# Altium integrated library CAP-CSGP_rev15b.intlib: 820 symbols (part 8 of 9)
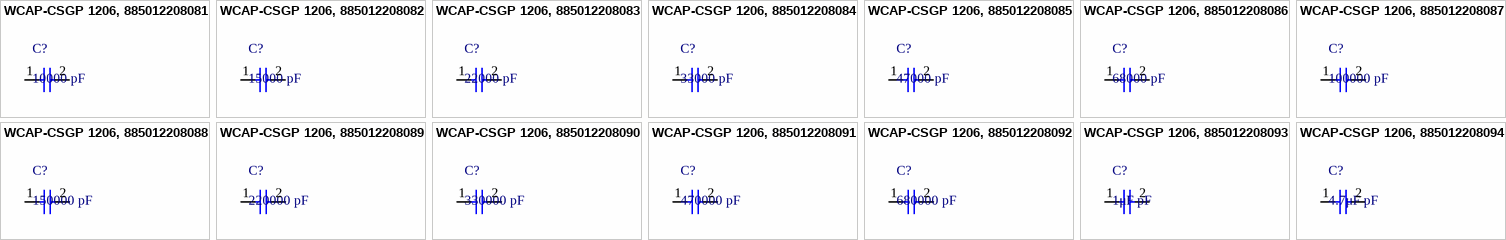
[diagram p35: symbols WCAP-CSGP 1206, 885012208081 to WCAP-CSGP 1206, 885012208094]

## WCAP-CSGP 1206, 885012208085
designator C?, comment 47000 pF
WCAP-CSGP MLCC, X7R, 1206, 47000 pF,50Vdc; Manufacturer: Wurth Elektronik; partNo: 885012208085; E-mail: libraries@we-online.com; ComponentLink1Description: Manufacturer; ComponentLink1URL: http://www.we-online.com; ComponentLink2Description: Datasheet; ComponentLink2URL: http://katalog.we-online.de/pbs/datasheet/885012208085.pdf; Created by: Karrer Zheng; Created Date: 3/9/2015; Capacitance: 47000 pF
footprint WCAP-CSGP 1206, H=0.8mm
pins: 1, 2

## WCAP-CSGP 1206, 885012208086
designator C?, comment 68000 pF
WCAP-CSGP MLCC, X7R, 1206, 68000 pF,50Vdc; Manufacturer: Wurth Elektronik; partNo: 885012208086; E-mail: libraries@we-online.com; ComponentLink1Description: Manufacturer; ComponentLink1URL: http://www.we-online.com; ComponentLink2Description: Datasheet; ComponentLink2URL: http://katalog.we-online.de/pbs/datasheet/885012208086.pdf; Created by: Karrer Zheng; Created Date: 3/9/2015; Capacitance: 68000 pF
footprint WCAP-CSGP 1206, H=0.8mm
pins: 1, 2

## WCAP-CSGP 1206, 885012208087
designator C?, comment 100000 pF
WCAP-CSGP MLCC, X7R, 1206, 100000 pF,50Vdc; Manufacturer: Wurth Elektronik; partNo: 885012208087; E-mail: libraries@we-online.com; ComponentLink1Description: Manufacturer; ComponentLink1URL: http://www.we-online.com; ComponentLink2Description: Datasheet; ComponentLink2URL: http://katalog.we-online.de/pbs/datasheet/885012208087.pdf; Created by: Karrer Zheng; Created Date: 3/9/2015; Capacitance: 100000 pF
footprint WCAP-CSGP 1206, H=0.8mm
pins: 1, 2

## WCAP-CSGP 1206, 885012208088
designator C?, comment 150000 pF
WCAP-CSGP MLCC, X7R, 1206, 150000 pF,50Vdc; Manufacturer: Wurth Elektronik; partNo: 885012208088; E-mail: libraries@we-online.com; ComponentLink1Description: Manufacturer; ComponentLink1URL: http://www.we-online.com; ComponentLink2Description: Datasheet; ComponentLink2URL: http://katalog.we-online.de/pbs/datasheet/885012208088.pdf; Created by: Karrer Zheng; Created Date: 3/9/2015; Capacitance: 150000 pF
footprint WCAP-CSGP 1206, H=0.95mm
pins: 1, 2

## WCAP-CSGP 1206, 885012208089
designator C?, comment 220000 pF
WCAP-CSGP MLCC, X7R, 1206, 220000 pF,50Vdc; Manufacturer: Wurth Elektronik; partNo: 885012208089; E-mail: libraries@we-online.com; ComponentLink1Description: Manufacturer; ComponentLink1URL: http://www.we-online.com; ComponentLink2Description: Datasheet; ComponentLink2URL: http://katalog.we-online.de/pbs/datasheet/885012208089.pdf; Created by: Karrer Zheng; Created Date: 3/9/2015; Capacitance: 220000 pF
footprint WCAP-CSGP 1206, H=0.95mm
pins: 1, 2

## WCAP-CSGP 1206, 885012208090
designator C?, comment 330000 pF
WCAP-CSGP MLCC, X7R, 1206, 330000 pF,50Vdc; Manufacturer: Wurth Elektronik; partNo: 885012208090; E-mail: libraries@we-online.com; ComponentLink1Description: Manufacturer; ComponentLink1URL: http://www.we-online.com; ComponentLink2Description: Datasheet; ComponentLink2URL: http://katalog.we-online.de/pbs/datasheet/885012208090.pdf; Created by: Karrer Zheng; Created Date: 3/9/2015; Capacitance: 330000 pF
footprint WCAP-CSGP 1206, H=1.25mm
pins: 1, 2

## WCAP-CSGP 1206, 885012208091
designator C?, comment 470000 pF
WCAP-CSGP MLCC, X7R, 1206, 470000 pF,50Vdc; Manufacturer: Wurth Elektronik; partNo: 885012208091; E-mail: libraries@we-online.com; ComponentLink1Description: Manufacturer; ComponentLink1URL: http://www.we-online.com; ComponentLink2Description: Datasheet; ComponentLink2URL: http://katalog.we-online.de/pbs/datasheet/885012208091.pdf; Created by: Karrer Zheng; Created Date: 3/9/2015; Capacitance: 470000 pF
footprint WCAP-CSGP 1206, H=1.6mm
pins: 1, 2

## WCAP-CSGP 1206, 885012208092
designator C?, comment 680000 pF
WCAP-CSGP MLCC, X7R, 1206, 680000 pF,50Vdc; Manufacturer: Wurth Elektronik; partNo: 885012208092; E-mail: libraries@we-online.com; ComponentLink1Description: Manufacturer; ComponentLink1URL: http://www.we-online.com; ComponentLink2Description: Datasheet; ComponentLink2URL: http://katalog.we-online.de/pbs/datasheet/885012208092.pdf; Created by: Karrer Zheng; Created Date: 3/9/2015; Capacitance: 680000 pF
footprint WCAP-CSGP 1206, H=1.6mm
pins: 1, 2

## WCAP-CSGP 1206, 885012208093
designator C?, comment 1μF pF
WCAP-CSGP MLCC, X7R, 1206, 1μF pF,50Vdc; Manufacturer: Wurth Elektronik; partNo: 885012208093; E-mail: libraries@we-online.com; ComponentLink1Description: Manufacturer; ComponentLink1URL: http://www.we-online.com; ComponentLink2Description: Datasheet; ComponentLink2URL: http://katalog.we-online.de/pbs/datasheet/885012208093.pdf; Created by: Karrer Zheng; Created Date: 3/9/2015; Capacitance: 1μF pF
footprint WCAP-CSGP 1206, H=1.6mm
pins: 1, 2

## WCAP-CSGP 1206, 885012208094
designator C?, comment 4.7μF pF
WCAP-CSGP MLCC, X7R, 1206, 4.7μF pF,50Vdc; Manufacturer: Wurth Elektronik; partNo: 885012208094; E-mail: libraries@we-online.com; ComponentLink1Description: Manufacturer; ComponentLink1URL: http://www.we-online.com; ComponentLink2Description: Datasheet; ComponentLink2URL: http://katalog.we-online.de/pbs/datasheet/885012208094.pdf; Created by: Karrer Zheng; Created Date: 3/9/2015; Capacitance: 4.7μF pF
footprint WCAP-CSGP 1206, H=1.6mm
pins: 1, 2


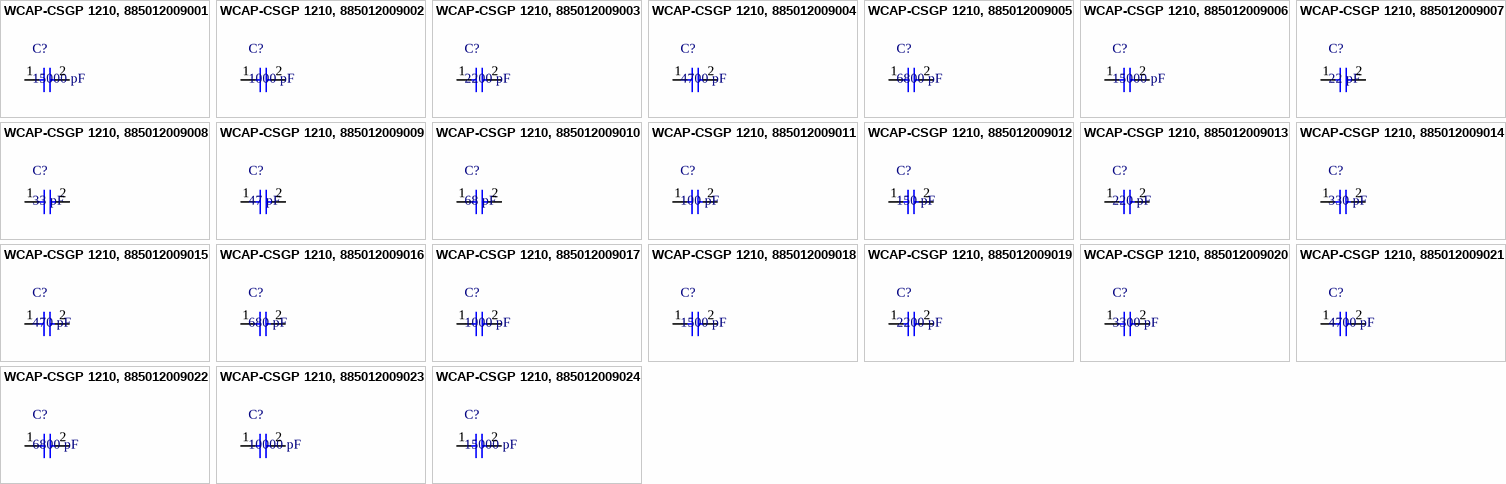
[diagram p23: symbols WCAP-CSGP 1210, 885012009001 to WCAP-CSGP 1210, 885012009024]

## WCAP-CSGP 1210, 885012009001
designator C?, comment 15000 pF
WCAP-CSGP MLCC, NP0, 1210, 15000 pF,16Vdc; Manufacturer: Wurth Elektronik; partNo: 885012009001; E-mail: libraries@we-online.com; ComponentLink1Description: Manufacturer; ComponentLink1URL: http://www.we-online.com; ComponentLink2Description: Datasheet; ComponentLink2URL: http://katalog.we-online.de/pbs/datasheet/885012009001.pdf; Created by: Karrer Zheng; Created Date: 3/9/2015; Capacitance: 15000 pF
footprint WCAP-CSGP 1210, H=1.25mm (MLCC 1210, H=0.95mm)
pins: 1, 2

## WCAP-CSGP 1210, 885012009002
designator C?, comment 1000 pF
WCAP-CSGP MLCC, NP0, 1210, 1000 pF,25Vdc; Manufacturer: Wurth Elektronik; partNo: 885012009002; E-mail: libraries@we-online.com; ComponentLink1Description: Manufacturer; ComponentLink1URL: http://www.we-online.com; ComponentLink2Description: Datasheet; ComponentLink2URL: http://katalog.we-online.de/pbs/datasheet/885012009002.pdf; Created by: Karrer Zheng; Created Date: 3/9/2015; Capacitance: 1000 pF
footprint WCAP-CSGP 1210, H=0.95mm
pins: 1, 2

## WCAP-CSGP 1210, 885012009003
designator C?, comment 2200 pF
WCAP-CSGP MLCC, NP0, 1210, 2200 pF,25Vdc; Manufacturer: Wurth Elektronik; partNo: 885012009003; E-mail: libraries@we-online.com; ComponentLink1Description: Manufacturer; ComponentLink1URL: http://www.we-online.com; ComponentLink2Description: Datasheet; ComponentLink2URL: http://katalog.we-online.de/pbs/datasheet/885012009003.pdf; Created by: Karrer Zheng; Created Date: 3/9/2015; Capacitance: 2200 pF
footprint WCAP-CSGP 1210, H=0.95mm
pins: 1, 2

## WCAP-CSGP 1210, 885012009004
designator C?, comment 4700 pF
WCAP-CSGP MLCC, NP0, 1210, 4700 pF,25Vdc; Manufacturer: Wurth Elektronik; partNo: 885012009004; E-mail: libraries@we-online.com; ComponentLink1Description: Manufacturer; ComponentLink1URL: http://www.we-online.com; ComponentLink2Description: Datasheet; ComponentLink2URL: http://katalog.we-online.de/pbs/datasheet/885012009004.pdf; Created by: Karrer Zheng; Created Date: 3/9/2015; Capacitance: 4700 pF
footprint WCAP-CSGP 1210, H=0.95mm
pins: 1, 2

## WCAP-CSGP 1210, 885012009005
designator C?, comment 6800 pF
WCAP-CSGP MLCC, NP0, 1210, 6800 pF,25Vdc; Manufacturer: Wurth Elektronik; partNo: 885012009005; E-mail: libraries@we-online.com; ComponentLink1Description: Manufacturer; ComponentLink1URL: http://www.we-online.com; ComponentLink2Description: Datasheet; ComponentLink2URL: http://katalog.we-online.de/pbs/datasheet/885012009005.pdf; Created by: Karrer Zheng; Created Date: 3/9/2015; Capacitance: 6800 pF
footprint WCAP-CSGP 1210, H=0.95mm
pins: 1, 2

## WCAP-CSGP 1210, 885012009006
designator C?, comment 15000 pF
WCAP-CSGP MLCC, NP0, 1210, 15000 pF,25Vdc; Manufacturer: Wurth Elektronik; partNo: 885012009006; E-mail: libraries@we-online.com; ComponentLink1Description: Manufacturer; ComponentLink1URL: http://www.we-online.com; ComponentLink2Description: Datasheet; ComponentLink2URL: http://katalog.we-online.de/pbs/datasheet/885012009006.pdf; Created by: Karrer Zheng; Created Date: 3/9/2015; Capacitance: 15000 pF
footprint WCAP-CSGP 1210, H=1.25mm
pins: 1, 2

## WCAP-CSGP 1210, 885012009007
designator C?, comment 22 pF
WCAP-CSGP MLCC, NP0, 1210, 22 pF,50Vdc; Manufacturer: Wurth Elektronik; partNo: 885012009007; E-mail: libraries@we-online.com; ComponentLink1Description: Manufacturer; ComponentLink1URL: http://www.we-online.com; ComponentLink2Description: Datasheet; ComponentLink2URL: http://katalog.we-online.de/pbs/datasheet/885012009007.pdf; Created by: Karrer Zheng; Created Date: 3/9/2015; Capacitance: 22 pF
footprint WCAP-CSGP 1210, H=0.95mm
pins: 1, 2

## WCAP-CSGP 1210, 885012009008
designator C?, comment 33 pF
WCAP-CSGP MLCC, NP0, 1210, 33 pF,50Vdc; Manufacturer: Wurth Elektronik; partNo: 885012009008; E-mail: libraries@we-online.com; ComponentLink1Description: Manufacturer; ComponentLink1URL: http://www.we-online.com; ComponentLink2Description: Datasheet; ComponentLink2URL: http://katalog.we-online.de/pbs/datasheet/885012009008.pdf; Created by: Karrer Zheng; Created Date: 3/9/2015; Capacitance: 33 pF
footprint WCAP-CSGP 1210, H=0.95mm
pins: 1, 2

## WCAP-CSGP 1210, 885012009009
designator C?, comment 47 pF
WCAP-CSGP MLCC, NP0, 1210, 47 pF,50Vdc; Manufacturer: Wurth Elektronik; partNo: 885012009009; E-mail: libraries@we-online.com; ComponentLink1Description: Manufacturer; ComponentLink1URL: http://www.we-online.com; ComponentLink2Description: Datasheet; ComponentLink2URL: http://katalog.we-online.de/pbs/datasheet/885012009009.pdf; Created by: Karrer Zheng; Created Date: 3/9/2015; Capacitance: 47 pF
footprint WCAP-CSGP 1210, H=0.95mm
pins: 1, 2

## WCAP-CSGP 1210, 885012009010
designator C?, comment 68 pF
WCAP-CSGP MLCC, NP0, 1210, 68 pF,50Vdc; Manufacturer: Wurth Elektronik; partNo: 885012009010; E-mail: libraries@we-online.com; ComponentLink1Description: Manufacturer; ComponentLink1URL: http://www.we-online.com; ComponentLink2Description: Datasheet; ComponentLink2URL: http://katalog.we-online.de/pbs/datasheet/885012009010.pdf; Created by: Karrer Zheng; Created Date: 3/9/2015; Capacitance: 68 pF
footprint WCAP-CSGP 1210, H=0.95mm
pins: 1, 2

## WCAP-CSGP 1210, 885012009011
designator C?, comment 100 pF
WCAP-CSGP MLCC, NP0, 1210, 100 pF,50Vdc; Manufacturer: Wurth Elektronik; partNo: 885012009011; E-mail: libraries@we-online.com; ComponentLink1Description: Manufacturer; ComponentLink1URL: http://www.we-online.com; ComponentLink2Description: Datasheet; ComponentLink2URL: http://katalog.we-online.de/pbs/datasheet/885012009011.pdf; Created by: Karrer Zheng; Created Date: 3/9/2015; Capacitance: 100 pF
footprint WCAP-CSGP 1210, H=0.95mm
pins: 1, 2

## WCAP-CSGP 1210, 885012009012
designator C?, comment 150 pF
WCAP-CSGP MLCC, NP0, 1210, 150 pF,50Vdc; Manufacturer: Wurth Elektronik; partNo: 885012009012; E-mail: libraries@we-online.com; ComponentLink1Description: Manufacturer; ComponentLink1URL: http://www.we-online.com; ComponentLink2Description: Datasheet; ComponentLink2URL: http://katalog.we-online.de/pbs/datasheet/885012009012.pdf; Created by: Karrer Zheng; Created Date: 3/9/2015; Capacitance: 150 pF
footprint WCAP-CSGP 1210, H=0.95mm
pins: 1, 2

## WCAP-CSGP 1210, 885012009013
designator C?, comment 220 pF
WCAP-CSGP MLCC, NP0, 1210, 220 pF,50Vdc; Manufacturer: Wurth Elektronik; partNo: 885012009013; E-mail: libraries@we-online.com; ComponentLink1Description: Manufacturer; ComponentLink1URL: http://www.we-online.com; ComponentLink2Description: Datasheet; ComponentLink2URL: http://katalog.we-online.de/pbs/datasheet/885012009013.pdf; Created by: Karrer Zheng; Created Date: 3/9/2015; Capacitance: 220 pF
footprint WCAP-CSGP 1210, H=0.95mm
pins: 1, 2

## WCAP-CSGP 1210, 885012009014
designator C?, comment 330 pF
WCAP-CSGP MLCC, NP0, 1210, 330 pF,50Vdc; Manufacturer: Wurth Elektronik; partNo: 885012009014; E-mail: libraries@we-online.com; ComponentLink1Description: Manufacturer; ComponentLink1URL: http://www.we-online.com; ComponentLink2Description: Datasheet; ComponentLink2URL: http://katalog.we-online.de/pbs/datasheet/885012009014.pdf; Created by: Karrer Zheng; Created Date: 3/9/2015; Capacitance: 330 pF
footprint WCAP-CSGP 1210, H=0.95mm
pins: 1, 2

## WCAP-CSGP 1210, 885012009015
designator C?, comment 470 pF
WCAP-CSGP MLCC, NP0, 1210, 470 pF,50Vdc; Manufacturer: Wurth Elektronik; partNo: 885012009015; E-mail: libraries@we-online.com; ComponentLink1Description: Manufacturer; ComponentLink1URL: http://www.we-online.com; ComponentLink2Description: Datasheet; ComponentLink2URL: http://katalog.we-online.de/pbs/datasheet/885012009015.pdf; Created by: Karrer Zheng; Created Date: 3/9/2015; Capacitance: 470 pF
footprint WCAP-CSGP 1210, H=0.95mm
pins: 1, 2

## WCAP-CSGP 1210, 885012009016
designator C?, comment 680 pF
WCAP-CSGP MLCC, NP0, 1210, 680 pF,50Vdc; Manufacturer: Wurth Elektronik; partNo: 885012009016; E-mail: libraries@we-online.com; ComponentLink1Description: Manufacturer; ComponentLink1URL: http://www.we-online.com; ComponentLink2Description: Datasheet; ComponentLink2URL: http://katalog.we-online.de/pbs/datasheet/885012009016.pdf; Created by: Karrer Zheng; Created Date: 3/9/2015; Capacitance: 680 pF
footprint WCAP-CSGP 1210, H=0.95mm
pins: 1, 2

## WCAP-CSGP 1210, 885012009017
designator C?, comment 1000 pF
WCAP-CSGP MLCC, NP0, 1210, 1000 pF,50Vdc; Manufacturer: Wurth Elektronik; partNo: 885012009017; E-mail: libraries@we-online.com; ComponentLink1Description: Manufacturer; ComponentLink1URL: http://www.we-online.com; ComponentLink2Description: Datasheet; ComponentLink2URL: http://katalog.we-online.de/pbs/datasheet/885012009017.pdf; Created by: Karrer Zheng; Created Date: 3/9/2015; Capacitance: 1000 pF
footprint WCAP-CSGP 1210, H=0.95mm
pins: 1, 2

## WCAP-CSGP 1210, 885012009018
designator C?, comment 1500 pF
WCAP-CSGP MLCC, NP0, 1210, 1500 pF,50Vdc; Manufacturer: Wurth Elektronik; partNo: 885012009018; E-mail: libraries@we-online.com; ComponentLink1Description: Manufacturer; ComponentLink1URL: http://www.we-online.com; ComponentLink2Description: Datasheet; ComponentLink2URL: http://katalog.we-online.de/pbs/datasheet/885012009018.pdf; Created by: Karrer Zheng; Created Date: 3/9/2015; Capacitance: 1500 pF
footprint WCAP-CSGP 1210, H=0.95mm
pins: 1, 2

## WCAP-CSGP 1210, 885012009019
designator C?, comment 2200 pF
WCAP-CSGP MLCC, NP0, 1210, 2200 pF,50Vdc; Manufacturer: Wurth Elektronik; partNo: 885012009019; E-mail: libraries@we-online.com; ComponentLink1Description: Manufacturer; ComponentLink1URL: http://www.we-online.com; ComponentLink2Description: Datasheet; ComponentLink2URL: http://katalog.we-online.de/pbs/datasheet/885012009019.pdf; Created by: Karrer Zheng; Created Date: 3/9/2015; Capacitance: 2200 pF
footprint WCAP-CSGP 1210, H=0.95mm
pins: 1, 2

## WCAP-CSGP 1210, 885012009020
designator C?, comment 3300 pF
WCAP-CSGP MLCC, NP0, 1210, 3300 pF,50Vdc; Manufacturer: Wurth Elektronik; partNo: 885012009020; E-mail: libraries@we-online.com; ComponentLink1Description: Manufacturer; ComponentLink1URL: http://www.we-online.com; ComponentLink2Description: Datasheet; ComponentLink2URL: http://katalog.we-online.de/pbs/datasheet/885012009020.pdf; Created by: Karrer Zheng; Created Date: 3/9/2015; Capacitance: 3300 pF
footprint WCAP-CSGP 1210, H=0.95mm
pins: 1, 2

## WCAP-CSGP 1210, 885012009021
designator C?, comment 4700 pF
WCAP-CSGP MLCC, NP0, 1210, 4700 pF,50Vdc; Manufacturer: Wurth Elektronik; partNo: 885012009021; E-mail: libraries@we-online.com; ComponentLink1Description: Manufacturer; ComponentLink1URL: http://www.we-online.com; ComponentLink2Description: Datasheet; ComponentLink2URL: http://katalog.we-online.de/pbs/datasheet/885012009021.pdf; Created by: Karrer Zheng; Created Date: 3/9/2015; Capacitance: 4700 pF
footprint WCAP-CSGP 1210, H=0.95mm
pins: 1, 2

## WCAP-CSGP 1210, 885012009022
designator C?, comment 6800 pF
WCAP-CSGP MLCC, NP0, 1210, 6800 pF,50Vdc; Manufacturer: Wurth Elektronik; partNo: 885012009022; E-mail: libraries@we-online.com; ComponentLink1Description: Manufacturer; ComponentLink1URL: http://www.we-online.com; ComponentLink2Description: Datasheet; ComponentLink2URL: http://katalog.we-online.de/pbs/datasheet/885012009022.pdf; Created by: Karrer Zheng; Created Date: 3/9/2015; Capacitance: 6800 pF
footprint WCAP-CSGP 1210, H=0.95mm
pins: 1, 2

## WCAP-CSGP 1210, 885012009023
designator C?, comment 10000 pF
WCAP-CSGP MLCC, NP0, 1210, 10000 pF,50Vdc; Manufacturer: Wurth Elektronik; partNo: 885012009023; E-mail: libraries@we-online.com; ComponentLink1Description: Manufacturer; ComponentLink1URL: http://www.we-online.com; ComponentLink2Description: Datasheet; ComponentLink2URL: http://katalog.we-online.de/pbs/datasheet/885012009023.pdf; Created by: Karrer Zheng; Created Date: 3/9/2015; Capacitance: 10000 pF
footprint WCAP-CSGP 1210, H=0.95mm
pins: 1, 2

## WCAP-CSGP 1210, 885012009024
designator C?, comment 15000 pF
WCAP-CSGP MLCC, NP0, 1210, 15000 pF,50Vdc; Manufacturer: Wurth Elektronik; partNo: 885012009024; E-mail: libraries@we-online.com; ComponentLink1Description: Manufacturer; ComponentLink1URL: http://www.we-online.com; ComponentLink2Description: Datasheet; ComponentLink2URL: http://katalog.we-online.de/pbs/datasheet/885012009024.pdf; Created by: Karrer Zheng; Created Date: 3/9/2015; Capacitance: 15000 pF
footprint WCAP-CSGP 1210, H=1.25mm
pins: 1, 2


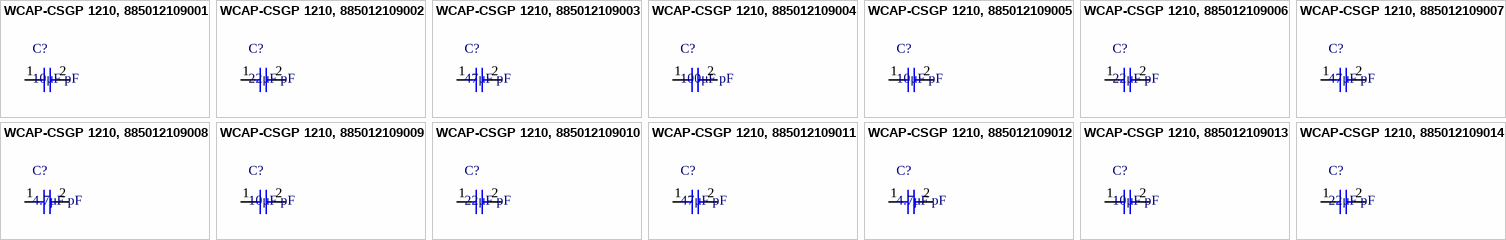
[diagram p24: symbols WCAP-CSGP 1210, 885012109001 to WCAP-CSGP 1210, 885012109014]

## WCAP-CSGP 1210, 885012109001
designator C?, comment 10μF pF
WCAP-CSGP MLCC, X5R, 1210, 10μF pF,6.3Vdc; Manufacturer: Wurth Elektronik; partNo: 885012109001; E-mail: libraries@we-online.com; ComponentLink1Description: Manufacturer; ComponentLink1URL: http://www.we-online.com; ComponentLink2Description: Datasheet; ComponentLink2URL: http://katalog.we-online.de/pbs/datasheet/885012109001.pdf; Created by: Karrer Zheng; Created Date: 3/9/2015; Capacitance: 10μF pF
footprint WCAP-CSGP 1210, H=2mm
pins: 1, 2

## WCAP-CSGP 1210, 885012109002
designator C?, comment 22μF pF
WCAP-CSGP MLCC, X5R, 1210, 22μF pF,6.3Vdc; Manufacturer: Wurth Elektronik; partNo: 885012109002; E-mail: libraries@we-online.com; ComponentLink1Description: Manufacturer; ComponentLink1URL: http://www.we-online.com; ComponentLink2Description: Datasheet; ComponentLink2URL: http://katalog.we-online.de/pbs/datasheet/885012109002.pdf; Created by: Karrer Zheng; Created Date: 3/9/2015; Capacitance: 22μF pF
footprint WCAP-CSGP 1210, H=2.5mm
pins: 1, 2

## WCAP-CSGP 1210, 885012109003
designator C?, comment 47μF pF
WCAP-CSGP MLCC, X5R, 1210, 47μF pF,6.3Vdc; Manufacturer: Wurth Elektronik; partNo: 885012109003; E-mail: libraries@we-online.com; ComponentLink1Description: Manufacturer; ComponentLink1URL: http://www.we-online.com; ComponentLink2Description: Datasheet; ComponentLink2URL: http://katalog.we-online.de/pbs/datasheet/885012109003.pdf; Created by: Karrer Zheng; Created Date: 3/9/2015; Capacitance: 47μF pF
footprint WCAP-CSGP 1210, H=2.5mm
pins: 1, 2

## WCAP-CSGP 1210, 885012109004
designator C?, comment 100μF pF
WCAP-CSGP MLCC, X5R, 1210, 100μF pF,6.3Vdc; Manufacturer: Wurth Elektronik; partNo: 885012109004; E-mail: libraries@we-online.com; ComponentLink1Description: Manufacturer; ComponentLink1URL: http://www.we-online.com; ComponentLink2Description: Datasheet; ComponentLink2URL: http://katalog.we-online.de/pbs/datasheet/885012109004.pdf; Created by: Karrer Zheng; Created Date: 3/9/2015; Capacitance: 100μF pF
footprint WCAP-CSGP 1210, H=2.5mm
pins: 1, 2

## WCAP-CSGP 1210, 885012109005
designator C?, comment 10μF pF
WCAP-CSGP MLCC, X5R, 1210, 10μF pF,10Vdc; Manufacturer: Wurth Elektronik; partNo: 885012109005; E-mail: libraries@we-online.com; ComponentLink1Description: Manufacturer; ComponentLink1URL: http://www.we-online.com; ComponentLink2Description: Datasheet; ComponentLink2URL: http://katalog.we-online.de/pbs/datasheet/885012109005.pdf; Created by: Karrer Zheng; Created Date: 3/9/2015; Capacitance: 10μF pF
footprint WCAP-CSGP 1210, H=2mm
pins: 1, 2

## WCAP-CSGP 1210, 885012109006
designator C?, comment 22μF pF
WCAP-CSGP MLCC, X5R, 1210, 22μF pF,10Vdc; Manufacturer: Wurth Elektronik; partNo: 885012109006; E-mail: libraries@we-online.com; ComponentLink1Description: Manufacturer; ComponentLink1URL: http://www.we-online.com; ComponentLink2Description: Datasheet; ComponentLink2URL: http://katalog.we-online.de/pbs/datasheet/885012109006.pdf; Created by: Karrer Zheng; Created Date: 3/9/2015; Capacitance: 22μF pF
footprint WCAP-CSGP 1210, H=2.5mm
pins: 1, 2

## WCAP-CSGP 1210, 885012109007
designator C?, comment 47μF pF
WCAP-CSGP MLCC, X5R, 1210, 47μF pF,10Vdc; Manufacturer: Wurth Elektronik; partNo: 885012109007; E-mail: libraries@we-online.com; ComponentLink1Description: Manufacturer; ComponentLink1URL: http://www.we-online.com; ComponentLink2Description: Datasheet; ComponentLink2URL: http://katalog.we-online.de/pbs/datasheet/885012109007.pdf; Created by: Karrer Zheng; Created Date: 3/9/2015; Capacitance: 47μF pF
footprint WCAP-CSGP 1210, H=2.5mm
pins: 1, 2

## WCAP-CSGP 1210, 885012109008
designator C?, comment 4.7μF pF
WCAP-CSGP MLCC, X5R, 1210, 4.7μF pF,16Vdc; Manufacturer: Wurth Elektronik; partNo: 885012109008; E-mail: libraries@we-online.com; ComponentLink1Description: Manufacturer; ComponentLink1URL: http://www.we-online.com; ComponentLink2Description: Datasheet; ComponentLink2URL: http://katalog.we-online.de/pbs/datasheet/885012109008.pdf; Created by: Karrer Zheng; Created Date: 3/9/2015; Capacitance: 4.7μF pF
footprint WCAP-CSGP 1210, H=2mm
pins: 1, 2

## WCAP-CSGP 1210, 885012109009
designator C?, comment 10μF pF
WCAP-CSGP MLCC, X5R, 1210, 10μF pF,16Vdc; Manufacturer: Wurth Elektronik; partNo: 885012109009; E-mail: libraries@we-online.com; ComponentLink1Description: Manufacturer; ComponentLink1URL: http://www.we-online.com; ComponentLink2Description: Datasheet; ComponentLink2URL: http://katalog.we-online.de/pbs/datasheet/885012109009.pdf; Created by: Karrer Zheng; Created Date: 3/9/2015; Capacitance: 10μF pF
footprint WCAP-CSGP 1210, H=2mm
pins: 1, 2

## WCAP-CSGP 1210, 885012109010
designator C?, comment 22μF pF
WCAP-CSGP MLCC, X5R, 1210, 22μF pF,16Vdc; Manufacturer: Wurth Elektronik; partNo: 885012109010; E-mail: libraries@we-online.com; ComponentLink1Description: Manufacturer; ComponentLink1URL: http://www.we-online.com; ComponentLink2Description: Datasheet; ComponentLink2URL: http://katalog.we-online.de/pbs/datasheet/885012109010.pdf; Created by: Karrer Zheng; Created Date: 3/9/2015; Capacitance: 22μF pF
footprint WCAP-CSGP 1210, H=2.5mm
pins: 1, 2

## WCAP-CSGP 1210, 885012109011
designator C?, comment 47μF pF
WCAP-CSGP MLCC, X5R, 1210, 47μF pF,16Vdc; Manufacturer: Wurth Elektronik; partNo: 885012109011; E-mail: libraries@we-online.com; ComponentLink1Description: Manufacturer; ComponentLink1URL: http://www.we-online.com; ComponentLink2Description: Datasheet; ComponentLink2URL: http://katalog.we-online.de/pbs/datasheet/885012109011.pdf; Created by: Karrer Zheng; Created Date: 3/9/2015; Capacitance: 47μF pF
footprint WCAP-CSGP 1210, H=2.5mm
pins: 1, 2

## WCAP-CSGP 1210, 885012109012
designator C?, comment 4.7μF pF
WCAP-CSGP MLCC, X5R, 1210, 4.7μF pF,25Vdc; Manufacturer: Wurth Elektronik; partNo: 885012109012; E-mail: libraries@we-online.com; ComponentLink1Description: Manufacturer; ComponentLink1URL: http://www.we-online.com; ComponentLink2Description: Datasheet; ComponentLink2URL: http://katalog.we-online.de/pbs/datasheet/885012109012.pdf; Created by: Karrer Zheng; Created Date: 3/9/2015; Capacitance: 4.7μF pF
footprint WCAP-CSGP 1210, H=2mm
pins: 1, 2

## WCAP-CSGP 1210, 885012109013
designator C?, comment 10μF pF
WCAP-CSGP MLCC, X5R, 1210, 10μF pF,25Vdc; Manufacturer: Wurth Elektronik; partNo: 885012109013; E-mail: libraries@we-online.com; ComponentLink1Description: Manufacturer; ComponentLink1URL: http://www.we-online.com; ComponentLink2Description: Datasheet; ComponentLink2URL: http://katalog.we-online.de/pbs/datasheet/885012109013.pdf; Created by: Karrer Zheng; Created Date: 3/9/2015; Capacitance: 10μF pF
footprint WCAP-CSGP 1210, H=2mm
pins: 1, 2

## WCAP-CSGP 1210, 885012109014
designator C?, comment 22μF pF
WCAP-CSGP MLCC, X5R, 1210, 22μF pF,25Vdc; Manufacturer: Wurth Elektronik; partNo: 885012109014; E-mail: libraries@we-online.com; ComponentLink1Description: Manufacturer; ComponentLink1URL: http://www.we-online.com; ComponentLink2Description: Datasheet; ComponentLink2URL: http://katalog.we-online.de/pbs/datasheet/885012109014.pdf; Created by: Karrer Zheng; Created Date: 3/9/2015; Capacitance: 22μF pF
footprint WCAP-CSGP 1210, H=2.5mm
pins: 1, 2


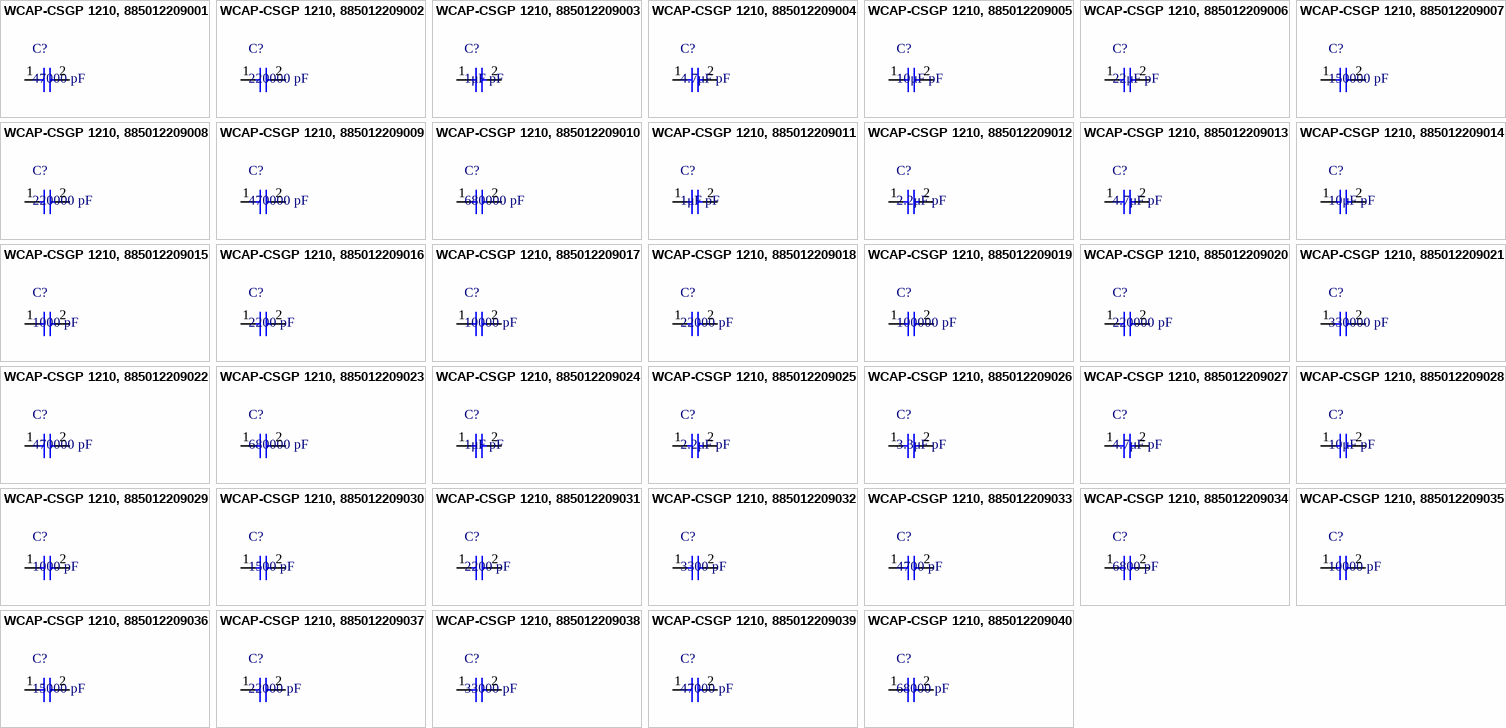
[diagram p25: symbols WCAP-CSGP 1210, 885012209001 to WCAP-CSGP 1210, 885012209040]

## WCAP-CSGP 1210, 885012209001
designator C?, comment 47000 pF
WCAP-CSGP MLCC, X7R, 1210, 47000 pF,10Vdc; Manufacturer: Wurth Elektronik; partNo: 885012209001; E-mail: libraries@we-online.com; ComponentLink1Description: Manufacturer; ComponentLink1URL: http://www.we-online.com; ComponentLink2Description: Datasheet; ComponentLink2URL: http://katalog.we-online.de/pbs/datasheet/885012209001.pdf; Created by: Karrer Zheng; Created Date: 3/9/2015; Capacitance: 47000 pF
footprint WCAP-CSGP 1210, H=0.95mm
pins: 1, 2

## WCAP-CSGP 1210, 885012209002
designator C?, comment 220000 pF
WCAP-CSGP MLCC, X7R, 1210, 220000 pF,10Vdc; Manufacturer: Wurth Elektronik; partNo: 885012209002; E-mail: libraries@we-online.com; ComponentLink1Description: Manufacturer; ComponentLink1URL: http://www.we-online.com; ComponentLink2Description: Datasheet; ComponentLink2URL: http://katalog.we-online.de/pbs/datasheet/885012209002.pdf; Created by: Karrer Zheng; Created Date: 3/9/2015; Capacitance: 220000 pF
footprint WCAP-CSGP 1210, H=0.95mm
pins: 1, 2

## WCAP-CSGP 1210, 885012209003
designator C?, comment 1μF pF
WCAP-CSGP MLCC, X7R, 1210, 1μF pF,10Vdc; Manufacturer: Wurth Elektronik; partNo: 885012209003; E-mail: libraries@we-online.com; ComponentLink1Description: Manufacturer; ComponentLink1URL: http://www.we-online.com; ComponentLink2Description: Datasheet; ComponentLink2URL: http://katalog.we-online.de/pbs/datasheet/885012209003.pdf; Created by: Karrer Zheng; Created Date: 3/9/2015; Capacitance: 1μF pF
footprint WCAP-CSGP 1210, H=1.25mm
pins: 1, 2

## WCAP-CSGP 1210, 885012209004
designator C?, comment 4.7μF pF
WCAP-CSGP MLCC, X7R, 1210, 4.7μF pF,10Vdc; Manufacturer: Wurth Elektronik; partNo: 885012209004; E-mail: libraries@we-online.com; ComponentLink1Description: Manufacturer; ComponentLink1URL: http://www.we-online.com; ComponentLink2Description: Datasheet; ComponentLink2URL: http://katalog.we-online.de/pbs/datasheet/885012209004.pdf; Created by: Karrer Zheng; Created Date: 3/9/2015; Capacitance: 4.7μF pF
footprint WCAP-CSGP 1210, H=2mm
pins: 1, 2

## WCAP-CSGP 1210, 885012209005
designator C?, comment 10μF pF
WCAP-CSGP MLCC, X7R, 1210, 10μF pF,10Vdc; Manufacturer: Wurth Elektronik; partNo: 885012209005; E-mail: libraries@we-online.com; ComponentLink1Description: Manufacturer; ComponentLink1URL: http://www.we-online.com; ComponentLink2Description: Datasheet; ComponentLink2URL: http://katalog.we-online.de/pbs/datasheet/885012209005.pdf; Created by: Karrer Zheng; Created Date: 3/9/2015; Capacitance: 10μF pF
footprint WCAP-CSGP 1210, H=2mm
pins: 1, 2

## WCAP-CSGP 1210, 885012209006
designator C?, comment 22μF pF
WCAP-CSGP MLCC, X7R, 1210, 22μF pF,10Vdc; Manufacturer: Wurth Elektronik; partNo: 885012209006; E-mail: libraries@we-online.com; ComponentLink1Description: Manufacturer; ComponentLink1URL: http://www.we-online.com; ComponentLink2Description: Datasheet; ComponentLink2URL: http://katalog.we-online.de/pbs/datasheet/885012209006.pdf; Created by: Karrer Zheng; Created Date: 3/9/2015; Capacitance: 22μF pF
footprint WCAP-CSGP 1210, H=2.5mm
pins: 1, 2

## WCAP-CSGP 1210, 885012209007
designator C?, comment 150000 pF
WCAP-CSGP MLCC, X7R, 1210, 150000 pF,16Vdc; Manufacturer: Wurth Elektronik; partNo: 885012209007; E-mail: libraries@we-online.com; ComponentLink1Description: Manufacturer; ComponentLink1URL: http://www.we-online.com; ComponentLink2Description: Datasheet; ComponentLink2URL: http://katalog.we-online.de/pbs/datasheet/885012209007.pdf; Created by: Karrer Zheng; Created Date: 3/9/2015; Capacitance: 150000 pF
footprint WCAP-CSGP 1210, H=0.95mm
pins: 1, 2

## WCAP-CSGP 1210, 885012209008
designator C?, comment 220000 pF
WCAP-CSGP MLCC, X7R, 1210, 220000 pF,16Vdc; Manufacturer: Wurth Elektronik; partNo: 885012209008; E-mail: libraries@we-online.com; ComponentLink1Description: Manufacturer; ComponentLink1URL: http://www.we-online.com; ComponentLink2Description: Datasheet; ComponentLink2URL: http://katalog.we-online.de/pbs/datasheet/885012209008.pdf; Created by: Karrer Zheng; Created Date: 3/9/2015; Capacitance: 220000 pF
footprint WCAP-CSGP 1210, H=0.95mm
pins: 1, 2

## WCAP-CSGP 1210, 885012209009
designator C?, comment 470000 pF
WCAP-CSGP MLCC, X7R, 1210, 470000 pF,16Vdc; Manufacturer: Wurth Elektronik; partNo: 885012209009; E-mail: libraries@we-online.com; ComponentLink1Description: Manufacturer; ComponentLink1URL: http://www.we-online.com; ComponentLink2Description: Datasheet; ComponentLink2URL: http://katalog.we-online.de/pbs/datasheet/885012209009.pdf; Created by: Karrer Zheng; Created Date: 3/9/2015; Capacitance: 470000 pF
footprint WCAP-CSGP 1210, H=0.95mm
pins: 1, 2

## WCAP-CSGP 1210, 885012209010
designator C?, comment 680000 pF
WCAP-CSGP MLCC, X7R, 1210, 680000 pF,16Vdc; Manufacturer: Wurth Elektronik; partNo: 885012209010; E-mail: libraries@we-online.com; ComponentLink1Description: Manufacturer; ComponentLink1URL: http://www.we-online.com; ComponentLink2Description: Datasheet; ComponentLink2URL: http://katalog.we-online.de/pbs/datasheet/885012209010.pdf; Created by: Karrer Zheng; Created Date: 3/9/2015; Capacitance: 680000 pF
footprint WCAP-CSGP 1210, H=1.25mm
pins: 1, 2

## WCAP-CSGP 1210, 885012209011
designator C?, comment 1μF pF
WCAP-CSGP MLCC, X7R, 1210, 1μF pF,16Vdc; Manufacturer: Wurth Elektronik; partNo: 885012209011; E-mail: libraries@we-online.com; ComponentLink1Description: Manufacturer; ComponentLink1URL: http://www.we-online.com; ComponentLink2Description: Datasheet; ComponentLink2URL: http://katalog.we-online.de/pbs/datasheet/885012209011.pdf; Created by: Karrer Zheng; Created Date: 3/9/2015; Capacitance: 1μF pF
footprint WCAP-CSGP 1210, H=1.25mm
pins: 1, 2

## WCAP-CSGP 1210, 885012209012
designator C?, comment 2.2μF pF
WCAP-CSGP MLCC, X7R, 1210, 2.2μF pF,16Vdc; Manufacturer: Wurth Elektronik; partNo: 885012209012; E-mail: libraries@we-online.com; ComponentLink1Description: Manufacturer; ComponentLink1URL: http://www.we-online.com; ComponentLink2Description: Datasheet; ComponentLink2URL: http://katalog.we-online.de/pbs/datasheet/885012209012.pdf; Created by: Karrer Zheng; Created Date: 3/9/2015; Capacitance: 2.2μF pF
footprint WCAP-CSGP 1210, H=2mm
pins: 1, 2

## WCAP-CSGP 1210, 885012209013
designator C?, comment 4.7μF pF
WCAP-CSGP MLCC, X7R, 1210, 4.7μF pF,16Vdc; Manufacturer: Wurth Elektronik; partNo: 885012209013; E-mail: libraries@we-online.com; ComponentLink1Description: Manufacturer; ComponentLink1URL: http://www.we-online.com; ComponentLink2Description: Datasheet; ComponentLink2URL: http://katalog.we-online.de/pbs/datasheet/885012209013.pdf; Created by: Karrer Zheng; Created Date: 3/9/2015; Capacitance: 4.7μF pF
footprint WCAP-CSGP 1210, H=2mm
pins: 1, 2

## WCAP-CSGP 1210, 885012209014
designator C?, comment 10μF pF
WCAP-CSGP MLCC, X7R, 1210, 10μF pF,16Vdc; Manufacturer: Wurth Elektronik; partNo: 885012209014; E-mail: libraries@we-online.com; ComponentLink1Description: Manufacturer; ComponentLink1URL: http://www.we-online.com; ComponentLink2Description: Datasheet; ComponentLink2URL: http://katalog.we-online.de/pbs/datasheet/885012209014.pdf; Created by: Karrer Zheng; Created Date: 3/9/2015; Capacitance: 10μF pF
footprint WCAP-CSGP 1210, H=2mm
pins: 1, 2

## WCAP-CSGP 1210, 885012209015
designator C?, comment 1000 pF
WCAP-CSGP MLCC, X7R, 1210, 1000 pF,25Vdc; Manufacturer: Wurth Elektronik; partNo: 885012209015; E-mail: libraries@we-online.com; ComponentLink1Description: Manufacturer; ComponentLink1URL: http://www.we-online.com; ComponentLink2Description: Datasheet; ComponentLink2URL: http://katalog.we-online.de/pbs/datasheet/885012209015.pdf; Created by: Karrer Zheng; Created Date: 3/9/2015; Capacitance: 1000 pF
footprint WCAP-CSGP 1210, H=0.95mm
pins: 1, 2

## WCAP-CSGP 1210, 885012209016
designator C?, comment 2200 pF
WCAP-CSGP MLCC, X7R, 1210, 2200 pF,25Vdc; Manufacturer: Wurth Elektronik; partNo: 885012209016; E-mail: libraries@we-online.com; ComponentLink1Description: Manufacturer; ComponentLink1URL: http://www.we-online.com; ComponentLink2Description: Datasheet; ComponentLink2URL: http://katalog.we-online.de/pbs/datasheet/885012209016.pdf; Created by: Karrer Zheng; Created Date: 3/9/2015; Capacitance: 2200 pF
footprint WCAP-CSGP 1210, H=0.95mm
pins: 1, 2

## WCAP-CSGP 1210, 885012209017
designator C?, comment 10000 pF
WCAP-CSGP MLCC, X7R, 1210, 10000 pF,25Vdc; Manufacturer: Wurth Elektronik; partNo: 885012209017; E-mail: libraries@we-online.com; ComponentLink1Description: Manufacturer; ComponentLink1URL: http://www.we-online.com; ComponentLink2Description: Datasheet; ComponentLink2URL: http://katalog.we-online.de/pbs/datasheet/885012209017.pdf; Created by: Karrer Zheng; Created Date: 3/9/2015; Capacitance: 10000 pF
footprint WCAP-CSGP 1210, H=0.95mm
pins: 1, 2

## WCAP-CSGP 1210, 885012209018
designator C?, comment 22000 pF
WCAP-CSGP MLCC, X7R, 1210, 22000 pF,25Vdc; Manufacturer: Wurth Elektronik; partNo: 885012209018; E-mail: libraries@we-online.com; ComponentLink1Description: Manufacturer; ComponentLink1URL: http://www.we-online.com; ComponentLink2Description: Datasheet; ComponentLink2URL: http://katalog.we-online.de/pbs/datasheet/885012209018.pdf; Created by: Karrer Zheng; Created Date: 3/9/2015; Capacitance: 22000 pF
footprint WCAP-CSGP 1210, H=0.95mm
pins: 1, 2

## WCAP-CSGP 1210, 885012209019
designator C?, comment 100000 pF
WCAP-CSGP MLCC, X7R, 1210, 100000 pF,25Vdc; Manufacturer: Wurth Elektronik; partNo: 885012209019; E-mail: libraries@we-online.com; ComponentLink1Description: Manufacturer; ComponentLink1URL: http://www.we-online.com; ComponentLink2Description: Datasheet; ComponentLink2URL: http://katalog.we-online.de/pbs/datasheet/885012209019.pdf; Created by: Karrer Zheng; Created Date: 3/9/2015; Capacitance: 100000 pF
footprint WCAP-CSGP 1210, H=0.95mm
pins: 1, 2

## WCAP-CSGP 1210, 885012209020
designator C?, comment 220000 pF
WCAP-CSGP MLCC, X7R, 1210, 220000 pF,25Vdc; Manufacturer: Wurth Elektronik; partNo: 885012209020; E-mail: libraries@we-online.com; ComponentLink1Description: Manufacturer; ComponentLink1URL: http://www.we-online.com; ComponentLink2Description: Datasheet; ComponentLink2URL: http://katalog.we-online.de/pbs/datasheet/885012209020.pdf; Created by: Karrer Zheng; Created Date: 3/9/2015; Capacitance: 220000 pF
footprint WCAP-CSGP 1210, H=0.95mm
pins: 1, 2

## WCAP-CSGP 1210, 885012209021
designator C?, comment 330000 pF
WCAP-CSGP MLCC, X7R, 1210, 330000 pF,25Vdc; Manufacturer: Wurth Elektronik; partNo: 885012209021; E-mail: libraries@we-online.com; ComponentLink1Description: Manufacturer; ComponentLink1URL: http://www.we-online.com; ComponentLink2Description: Datasheet; ComponentLink2URL: http://katalog.we-online.de/pbs/datasheet/885012209021.pdf; Created by: Karrer Zheng; Created Date: 3/9/2015; Capacitance: 330000 pF
footprint WCAP-CSGP 1210, H=0.95mm
pins: 1, 2

## WCAP-CSGP 1210, 885012209022
designator C?, comment 470000 pF
WCAP-CSGP MLCC, X7R, 1210, 470000 pF,25Vdc; Manufacturer: Wurth Elektronik; partNo: 885012209022; E-mail: libraries@we-online.com; ComponentLink1Description: Manufacturer; ComponentLink1URL: http://www.we-online.com; ComponentLink2Description: Datasheet; ComponentLink2URL: http://katalog.we-online.de/pbs/datasheet/885012209022.pdf; Created by: Karrer Zheng; Created Date: 3/9/2015; Capacitance: 470000 pF
footprint WCAP-CSGP 1210, H=0.95mm
pins: 1, 2

## WCAP-CSGP 1210, 885012209023
designator C?, comment 680000 pF
WCAP-CSGP MLCC, X7R, 1210, 680000 pF,25Vdc; Manufacturer: Wurth Elektronik; partNo: 885012209023; E-mail: libraries@we-online.com; ComponentLink1Description: Manufacturer; ComponentLink1URL: http://www.we-online.com; ComponentLink2Description: Datasheet; ComponentLink2URL: http://katalog.we-online.de/pbs/datasheet/885012209023.pdf; Created by: Karrer Zheng; Created Date: 3/9/2015; Capacitance: 680000 pF
footprint WCAP-CSGP 1210, H=1.25mm
pins: 1, 2

## WCAP-CSGP 1210, 885012209024
designator C?, comment 1μF pF
WCAP-CSGP MLCC, X7R, 1210, 1μF pF,25Vdc; Manufacturer: Wurth Elektronik; partNo: 885012209024; E-mail: libraries@we-online.com; ComponentLink1Description: Manufacturer; ComponentLink1URL: http://www.we-online.com; ComponentLink2Description: Datasheet; ComponentLink2URL: http://katalog.we-online.de/pbs/datasheet/885012209024.pdf; Created by: Karrer Zheng; Created Date: 3/9/2015; Capacitance: 1μF pF
footprint WCAP-CSGP 1210, H=1.25mm
pins: 1, 2

## WCAP-CSGP 1210, 885012209025
designator C?, comment 2.2μF pF
WCAP-CSGP MLCC, X7R, 1210, 2.2μF pF,25Vdc; Manufacturer: Wurth Elektronik; partNo: 885012209025; E-mail: libraries@we-online.com; ComponentLink1Description: Manufacturer; ComponentLink1URL: http://www.we-online.com; ComponentLink2Description: Datasheet; ComponentLink2URL: http://katalog.we-online.de/pbs/datasheet/885012209025.pdf; Created by: Karrer Zheng; Created Date: 3/9/2015; Capacitance: 2.2μF pF
footprint WCAP-CSGP 1210, H=1.6mm
pins: 1, 2

## WCAP-CSGP 1210, 885012209026
designator C?, comment 3.3μF pF
WCAP-CSGP MLCC, X7R, 1210, 3.3μF pF,25Vdc; Manufacturer: Wurth Elektronik; partNo: 885012209026; E-mail: libraries@we-online.com; ComponentLink1Description: Manufacturer; ComponentLink1URL: http://www.we-online.com; ComponentLink2Description: Datasheet; ComponentLink2URL: http://katalog.we-online.de/pbs/datasheet/885012209026.pdf; Created by: Karrer Zheng; Created Date: 3/9/2015; Capacitance: 3.3μF pF
footprint WCAP-CSGP 1210, H=1.6mm
pins: 1, 2

## WCAP-CSGP 1210, 885012209027
designator C?, comment 4.7μF pF
WCAP-CSGP MLCC, X7R, 1210, 4.7μF pF,25Vdc; Manufacturer: Wurth Elektronik; partNo: 885012209027; E-mail: libraries@we-online.com; ComponentLink1Description: Manufacturer; ComponentLink1URL: http://www.we-online.com; ComponentLink2Description: Datasheet; ComponentLink2URL: http://katalog.we-online.de/pbs/datasheet/885012209027.pdf; Created by: Karrer Zheng; Created Date: 3/9/2015; Capacitance: 4.7μF pF
footprint WCAP-CSGP 1210, H=2mm
pins: 1, 2

## WCAP-CSGP 1210, 885012209028
designator C?, comment 10μF pF
WCAP-CSGP MLCC, X7R, 1210, 10μF pF,25Vdc; Manufacturer: Wurth Elektronik; partNo: 885012209028; E-mail: libraries@we-online.com; ComponentLink1Description: Manufacturer; ComponentLink1URL: http://www.we-online.com; ComponentLink2Description: Datasheet; ComponentLink2URL: http://katalog.we-online.de/pbs/datasheet/885012209028.pdf; Created by: Karrer Zheng; Created Date: 3/9/2015; Capacitance: 10μF pF
footprint WCAP-CSGP 1210, H=2mm
pins: 1, 2

## WCAP-CSGP 1210, 885012209029
designator C?, comment 1000 pF
WCAP-CSGP MLCC, X7R, 1210, 1000 pF,50Vdc; Manufacturer: Wurth Elektronik; partNo: 885012209029; E-mail: libraries@we-online.com; ComponentLink1Description: Manufacturer; ComponentLink1URL: http://www.we-online.com; ComponentLink2Description: Datasheet; ComponentLink2URL: http://katalog.we-online.de/pbs/datasheet/885012209029.pdf; Created by: Karrer Zheng; Created Date: 3/9/2015; Capacitance: 1000 pF
footprint WCAP-CSGP 1210, H=0.95mm
pins: 1, 2

## WCAP-CSGP 1210, 885012209030
designator C?, comment 1500 pF
WCAP-CSGP MLCC, X7R, 1210, 1500 pF,50Vdc; Manufacturer: Wurth Elektronik; partNo: 885012209030; E-mail: libraries@we-online.com; ComponentLink1Description: Manufacturer; ComponentLink1URL: http://www.we-online.com; ComponentLink2Description: Datasheet; ComponentLink2URL: http://katalog.we-online.de/pbs/datasheet/885012209030.pdf; Created by: Karrer Zheng; Created Date: 3/9/2015; Capacitance: 1500 pF
footprint WCAP-CSGP 1210, H=0.95mm
pins: 1, 2

## WCAP-CSGP 1210, 885012209031
designator C?, comment 2200 pF
WCAP-CSGP MLCC, X7R, 1210, 2200 pF,50Vdc; Manufacturer: Wurth Elektronik; partNo: 885012209031; E-mail: libraries@we-online.com; ComponentLink1Description: Manufacturer; ComponentLink1URL: http://www.we-online.com; ComponentLink2Description: Datasheet; ComponentLink2URL: http://katalog.we-online.de/pbs/datasheet/885012209031.pdf; Created by: Karrer Zheng; Created Date: 3/9/2015; Capacitance: 2200 pF
footprint WCAP-CSGP 1210, H=0.95mm
pins: 1, 2

## WCAP-CSGP 1210, 885012209032
designator C?, comment 3300 pF
WCAP-CSGP MLCC, X7R, 1210, 3300 pF,50Vdc; Manufacturer: Wurth Elektronik; partNo: 885012209032; E-mail: libraries@we-online.com; ComponentLink1Description: Manufacturer; ComponentLink1URL: http://www.we-online.com; ComponentLink2Description: Datasheet; ComponentLink2URL: http://katalog.we-online.de/pbs/datasheet/885012209032.pdf; Created by: Karrer Zheng; Created Date: 3/9/2015; Capacitance: 3300 pF
footprint WCAP-CSGP 1210, H=0.95mm
pins: 1, 2

## WCAP-CSGP 1210, 885012209033
designator C?, comment 4700 pF
WCAP-CSGP MLCC, X7R, 1210, 4700 pF,50Vdc; Manufacturer: Wurth Elektronik; partNo: 885012209033; E-mail: libraries@we-online.com; ComponentLink1Description: Manufacturer; ComponentLink1URL: http://www.we-online.com; ComponentLink2Description: Datasheet; ComponentLink2URL: http://katalog.we-online.de/pbs/datasheet/885012209033.pdf; Created by: Karrer Zheng; Created Date: 3/9/2015; Capacitance: 4700 pF
footprint WCAP-CSGP 1210, H=0.95mm
pins: 1, 2

## WCAP-CSGP 1210, 885012209034
designator C?, comment 6800 pF
WCAP-CSGP MLCC, X7R, 1210, 6800 pF,50Vdc; Manufacturer: Wurth Elektronik; partNo: 885012209034; E-mail: libraries@we-online.com; ComponentLink1Description: Manufacturer; ComponentLink1URL: http://www.we-online.com; ComponentLink2Description: Datasheet; ComponentLink2URL: http://katalog.we-online.de/pbs/datasheet/885012209034.pdf; Created by: Karrer Zheng; Created Date: 3/9/2015; Capacitance: 6800 pF
footprint WCAP-CSGP 1210, H=0.95mm
pins: 1, 2

## WCAP-CSGP 1210, 885012209035
designator C?, comment 10000 pF
WCAP-CSGP MLCC, X7R, 1210, 10000 pF,50Vdc; Manufacturer: Wurth Elektronik; partNo: 885012209035; E-mail: libraries@we-online.com; ComponentLink1Description: Manufacturer; ComponentLink1URL: http://www.we-online.com; ComponentLink2Description: Datasheet; ComponentLink2URL: http://katalog.we-online.de/pbs/datasheet/885012209035.pdf; Created by: Karrer Zheng; Created Date: 3/9/2015; Capacitance: 10000 pF
footprint WCAP-CSGP 1210, H=0.95mm
pins: 1, 2

## WCAP-CSGP 1210, 885012209036
designator C?, comment 15000 pF
WCAP-CSGP MLCC, X7R, 1210, 15000 pF,50Vdc; Manufacturer: Wurth Elektronik; partNo: 885012209036; E-mail: libraries@we-online.com; ComponentLink1Description: Manufacturer; ComponentLink1URL: http://www.we-online.com; ComponentLink2Description: Datasheet; ComponentLink2URL: http://katalog.we-online.de/pbs/datasheet/885012209036.pdf; Created by: Karrer Zheng; Created Date: 3/9/2015; Capacitance: 15000 pF
footprint WCAP-CSGP 1210, H=0.95mm
pins: 1, 2

## WCAP-CSGP 1210, 885012209037
designator C?, comment 22000 pF
WCAP-CSGP MLCC, X7R, 1210, 22000 pF,50Vdc; Manufacturer: Wurth Elektronik; partNo: 885012209037; E-mail: libraries@we-online.com; ComponentLink1Description: Manufacturer; ComponentLink1URL: http://www.we-online.com; ComponentLink2Description: Datasheet; ComponentLink2URL: http://katalog.we-online.de/pbs/datasheet/885012209037.pdf; Created by: Karrer Zheng; Created Date: 3/9/2015; Capacitance: 22000 pF
footprint WCAP-CSGP 1210, H=0.95mm
pins: 1, 2

## WCAP-CSGP 1210, 885012209038
designator C?, comment 33000 pF
WCAP-CSGP MLCC, X7R, 1210, 33000 pF,50Vdc; Manufacturer: Wurth Elektronik; partNo: 885012209038; E-mail: libraries@we-online.com; ComponentLink1Description: Manufacturer; ComponentLink1URL: http://www.we-online.com; ComponentLink2Description: Datasheet; ComponentLink2URL: http://katalog.we-online.de/pbs/datasheet/885012209038.pdf; Created by: Karrer Zheng; Created Date: 3/9/2015; Capacitance: 33000 pF
footprint WCAP-CSGP 1210, H=0.95mm
pins: 1, 2

## WCAP-CSGP 1210, 885012209039
designator C?, comment 47000 pF
WCAP-CSGP MLCC, X7R, 1210, 47000 pF,50Vdc; Manufacturer: Wurth Elektronik; partNo: 885012209039; E-mail: libraries@we-online.com; ComponentLink1Description: Manufacturer; ComponentLink1URL: http://www.we-online.com; ComponentLink2Description: Datasheet; ComponentLink2URL: http://katalog.we-online.de/pbs/datasheet/885012209039.pdf; Created by: Karrer Zheng; Created Date: 3/9/2015; Capacitance: 47000 pF
footprint WCAP-CSGP 1210, H=0.95mm
pins: 1, 2

## WCAP-CSGP 1210, 885012209040
designator C?, comment 68000 pF
WCAP-CSGP MLCC, X7R, 1210, 68000 pF,50Vdc; Manufacturer: Wurth Elektronik; partNo: 885012209040; E-mail: libraries@we-online.com; ComponentLink1Description: Manufacturer; ComponentLink1URL: http://www.we-online.com; ComponentLink2Description: Datasheet; ComponentLink2URL: http://katalog.we-online.de/pbs/datasheet/885012209040.pdf; Created by: Karrer Zheng; Created Date: 3/9/2015; Capacitance: 68000 pF
footprint WCAP-CSGP 1210, H=0.95mm
pins: 1, 2

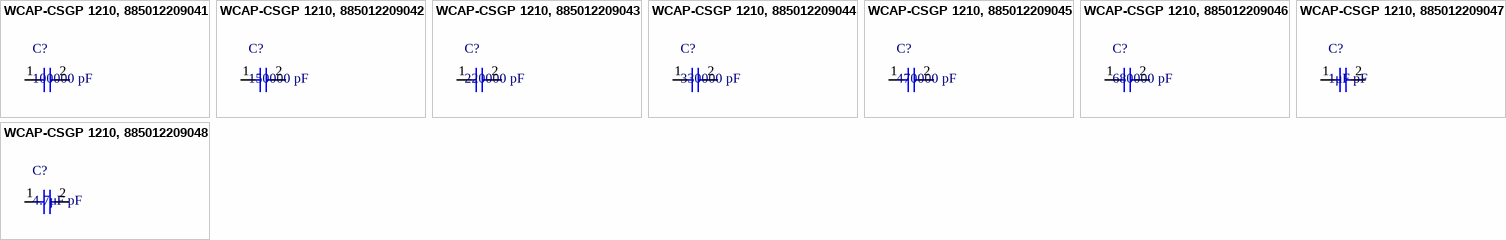
[diagram p26: symbols WCAP-CSGP 1210, 885012209041 to WCAP-CSGP 1210, 885012209048]

## WCAP-CSGP 1210, 885012209041
designator C?, comment 100000 pF
WCAP-CSGP MLCC, X7R, 1210, 100000 pF,50Vdc; Manufacturer: Wurth Elektronik; partNo: 885012209041; E-mail: libraries@we-online.com; ComponentLink1Description: Manufacturer; ComponentLink1URL: http://www.we-online.com; ComponentLink2Description: Datasheet; ComponentLink2URL: http://katalog.we-online.de/pbs/datasheet/885012209041.pdf; Created by: Karrer Zheng; Created Date: 3/9/2015; Capacitance: 100000 pF
footprint WCAP-CSGP 1210, H=0.95mm
pins: 1, 2

## WCAP-CSGP 1210, 885012209042
designator C?, comment 150000 pF
WCAP-CSGP MLCC, X7R, 1210, 150000 pF,50Vdc; Manufacturer: Wurth Elektronik; partNo: 885012209042; E-mail: libraries@we-online.com; ComponentLink1Description: Manufacturer; ComponentLink1URL: http://www.we-online.com; ComponentLink2Description: Datasheet; ComponentLink2URL: http://katalog.we-online.de/pbs/datasheet/885012209042.pdf; Created by: Karrer Zheng; Created Date: 3/9/2015; Capacitance: 150000 pF
footprint WCAP-CSGP 1210, H=0.95mm
pins: 1, 2

## WCAP-CSGP 1210, 885012209043
designator C?, comment 220000 pF
WCAP-CSGP MLCC, X7R, 1210, 220000 pF,50Vdc; Manufacturer: Wurth Elektronik; partNo: 885012209043; E-mail: libraries@we-online.com; ComponentLink1Description: Manufacturer; ComponentLink1URL: http://www.we-online.com; ComponentLink2Description: Datasheet; ComponentLink2URL: http://katalog.we-online.de/pbs/datasheet/885012209043.pdf; Created by: Karrer Zheng; Created Date: 3/9/2015; Capacitance: 220000 pF
footprint WCAP-CSGP 1210, H=0.95mm
pins: 1, 2

## WCAP-CSGP 1210, 885012209044
designator C?, comment 330000 pF
WCAP-CSGP MLCC, X7R, 1210, 330000 pF,50Vdc; Manufacturer: Wurth Elektronik; partNo: 885012209044; E-mail: libraries@we-online.com; ComponentLink1Description: Manufacturer; ComponentLink1URL: http://www.we-online.com; ComponentLink2Description: Datasheet; ComponentLink2URL: http://katalog.we-online.de/pbs/datasheet/885012209044.pdf; Created by: Karrer Zheng; Created Date: 3/9/2015; Capacitance: 330000 pF
footprint WCAP-CSGP 1210, H=1.25mm
pins: 1, 2

## WCAP-CSGP 1210, 885012209045
designator C?, comment 470000 pF
WCAP-CSGP MLCC, X7R, 1210, 470000 pF,50Vdc; Manufacturer: Wurth Elektronik; partNo: 885012209045; E-mail: libraries@we-online.com; ComponentLink1Description: Manufacturer; ComponentLink1URL: http://www.we-online.com; ComponentLink2Description: Datasheet; ComponentLink2URL: http://katalog.we-online.de/pbs/datasheet/885012209045.pdf; Created by: Karrer Zheng; Created Date: 3/9/2015; Capacitance: 470000 pF
footprint WCAP-CSGP 1210, H=1.25mm
pins: 1, 2

## WCAP-CSGP 1210, 885012209046
designator C?, comment 680000 pF
WCAP-CSGP MLCC, X7R, 1210, 680000 pF,50Vdc; Manufacturer: Wurth Elektronik; partNo: 885012209046; E-mail: libraries@we-online.com; ComponentLink1Description: Manufacturer; ComponentLink1URL: http://www.we-online.com; ComponentLink2Description: Datasheet; ComponentLink2URL: http://katalog.we-online.de/pbs/datasheet/885012209046.pdf; Created by: Karrer Zheng; Created Date: 3/9/2015; Capacitance: 680000 pF
footprint WCAP-CSGP 1210, H=1.25mm
pins: 1, 2

## WCAP-CSGP 1210, 885012209047
designator C?, comment 1μF pF
WCAP-CSGP MLCC, X7R, 1210, 1μF pF,50Vdc; Manufacturer: Wurth Elektronik; partNo: 885012209047; E-mail: libraries@we-online.com; ComponentLink1Description: Manufacturer; ComponentLink1URL: http://www.we-online.com; ComponentLink2Description: Datasheet; ComponentLink2URL: http://katalog.we-online.de/pbs/datasheet/885012209047.pdf; Created by: Karrer Zheng; Created Date: 3/9/2015; Capacitance: 1μF pF
footprint WCAP-CSGP 1210, H=1.25mm
pins: 1, 2

## WCAP-CSGP 1210, 885012209048
designator C?, comment 4.7μF pF
WCAP-CSGP MLCC, X7R, 1210, 4.7μF pF,50Vdc; Manufacturer: Wurth Elektronik; partNo: 885012209048; E-mail: libraries@we-online.com; ComponentLink1Description: Manufacturer; ComponentLink1URL: http://www.we-online.com; ComponentLink2Description: Datasheet; ComponentLink2URL: http://katalog.we-online.de/pbs/datasheet/885012209048.pdf; Created by: Karrer Zheng; Created Date: 3/9/2015; Capacitance: 4.7μF pF
footprint WCAP-CSGP 1210, H=2.5mm
pins: 1, 2


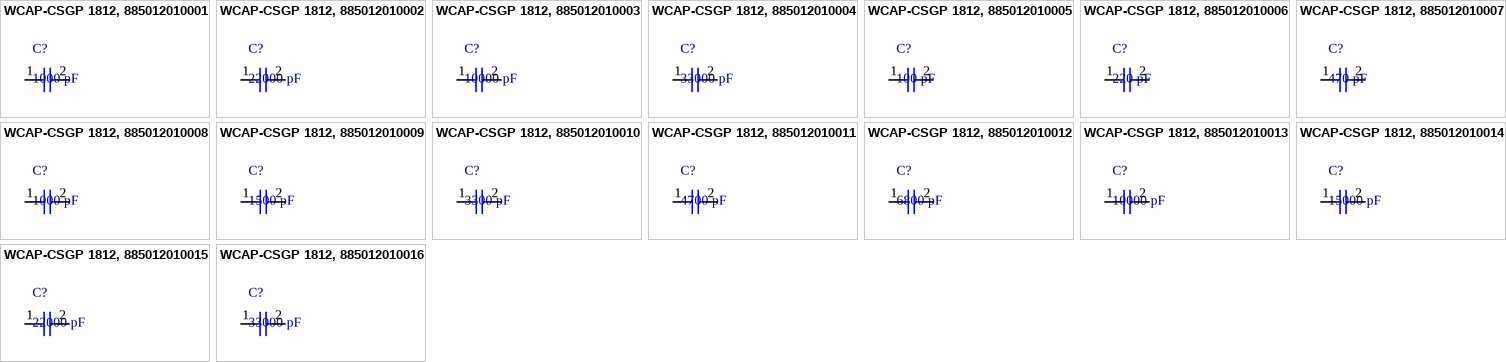
[diagram p27: symbols WCAP-CSGP 1812, 885012010001 to WCAP-CSGP 1812, 885012010016]